# Altium footprint library TE_5-146252-1.PcbLib: 1 footprints
Each footprint in its own frame and in the unit in brackets; x right, y up, seen from the top. Pads: shape width x height; smd on the part's side, far side on the other; paste and mask are expansions set on the pad; w line width, h text height; cw(c..) or ccw(c..) is an arc to the next point about the centre after c.
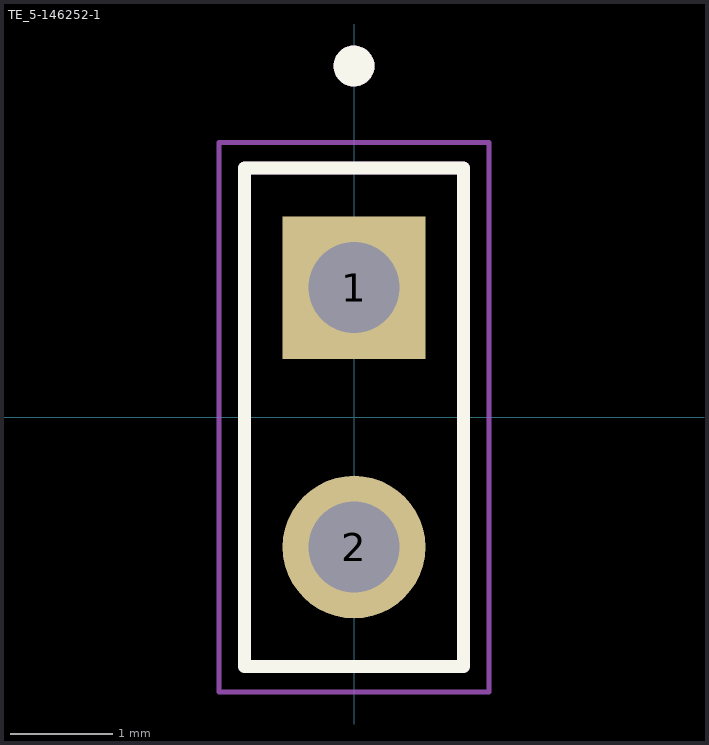
[diagram p0: the footprint, top view; thin cyan lines are the x and y axes]

## TE_5-146252-1 [mm]
pads (2):
  rect 1.398x1.398 hole 0.89: 1(0,1.27)
  round 1.398 hole 0.89: 2(0,-1.27)
Top Overlay:
  circle w0.2: c0,3.44 r0.1
  lines w0.127: -1.07,-2.44 -1.07,2.44 1.07,2.44 1.07,-2.44 -1.07,-2.44
Mechanical 13:
  circle w0.2: c0,3.44 r0.1
  lines w0.127: -1.07,-2.44 -1.07,2.44 1.07,2.44 1.07,-2.44 -1.07,-2.44
Mechanical 15:
  lines w0.05: -1.32,-2.69 -1.32,2.69 1.32,2.69 1.32,-2.69 -1.32,-2.69
3D body "5-146252-1--3DModel-STEP-1.STEP": height 10.58, standoff -2.96, extent -1.067,-2.438 1.067,2.438
3D body "SNT-100-BK-G.stp": height 8.6, standoff 2.5, extent -1.27,-2.388 1.27,2.692